# EAGLE library part STM32G031J (library my_ic)
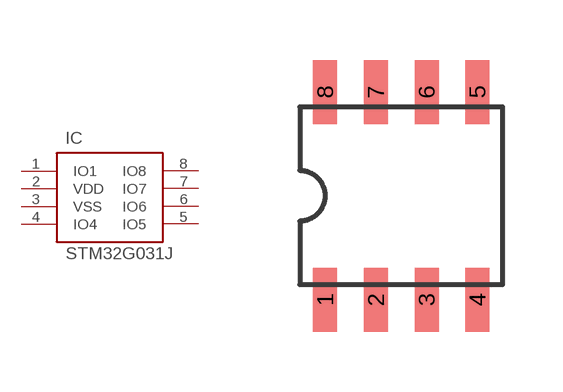
[diagram p24: symbol with the pads of SOP8; footprint SOP8]

Designator prefix IC

## STM32G031J  [SOP8]
1  IO1
2  VDD  pwr
3  VSS  pwr
4  IO4
5  IO5
6  IO6
7  IO7
8  IO8

## Footprint SOP8 (pad centres in mm)
SOP8 Source: http://www.rohm.com/products/databook/motor/pdf/bd623x_series-e.pdf
smd 0.6 x 1.6: 1 -1.905,-2.6; 2 -0.635,-2.6; 3 0.635,-2.6; 4 1.905,-2.6; 5 1.905,2.6; 6 0.635,2.6; 7 -0.635,2.6; 8 -1.905,2.6